# Altium footprint library libreriaPcb.PcbLib: 683 footprints (part 12 of 44)
Each footprint in its own frame and in the unit in brackets; x right, y up, seen from the top. Pads: shape width x height; smd on the part's side, far side on the other; paste and mask are expansions set on the pad; w line width, h text height; cw(c..) or ccw(c..) is an arc to the next point about the centre after c.
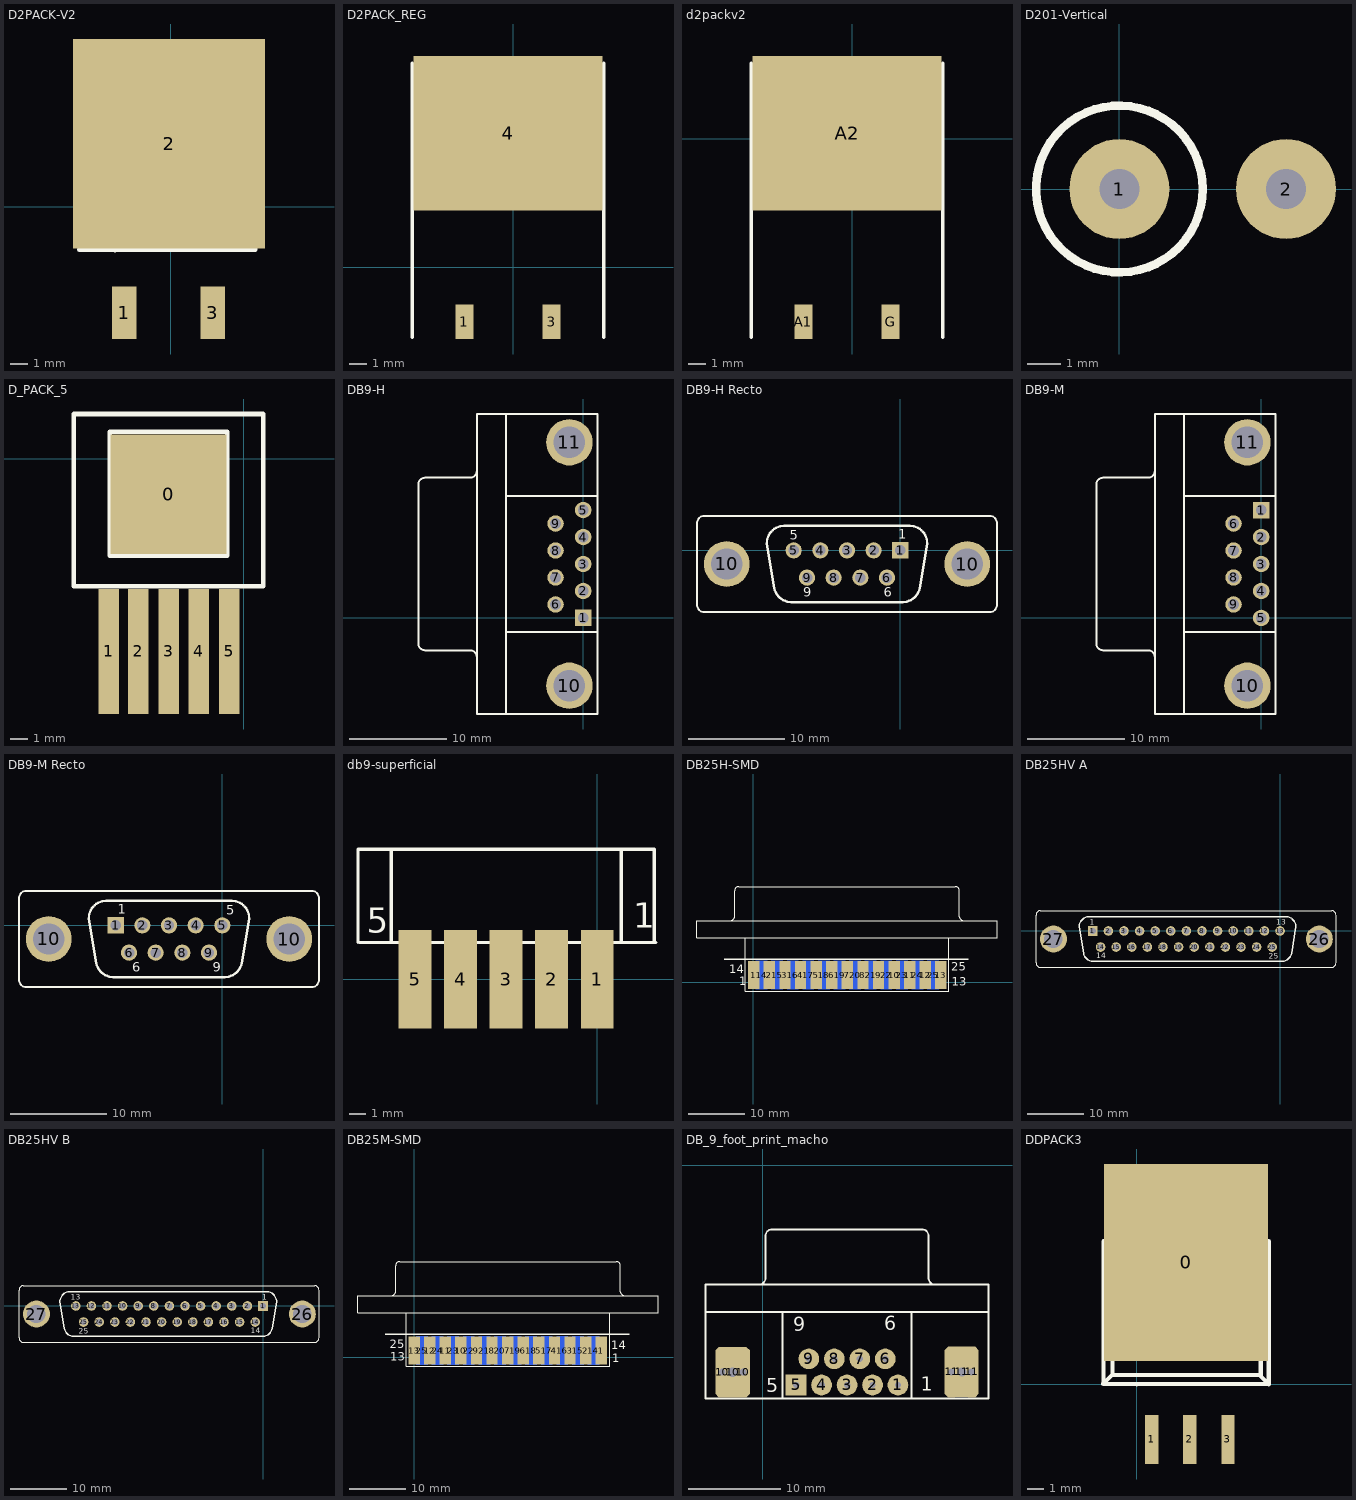
[diagram p11: the footprints below, top view; thin cyan lines are the x and y axes]

## D2PACK-V2 [mm]
pads (3):
  rect 1.4x3 smd: 1(-2.65,-6.075) 3(2.4,-6.075)
  rect 11x12 smd: 2(-0.1,3.6)
Top Overlay:
  lines w0.254: -5.23,-2.435 -5.23,-2.465 -0.21,-2.465 ; -5.21,-2.445 -5.21,6.245 4.85,6.245 4.85,-2.475 4.85,-2.465 ; -5.19,-2.395 -4.74,-1.945 ; -5.11,6.145 -4.68,5.715 ; -3.19,-2.485 -3.19,-2.465 3.35,-2.465 ; -3.19,6.255 3.36,6.255 3.36,6.215 3.35,6.215 ; 1.38,-2.465 4.85,-2.465 ; 4.37,-1.915 -4.68,-1.915 -4.68,5.715 ; 4.37,-1.795 4.37,5.665 ; 4.39,-2.005 4.85,-2.465 ; 4.82,6.165 4.39,5.735 4.39,5.715 -4.68,5.715
3D body: height 1, standoff 0, extent -3.457,-2.465 3.47,6.285

## D2PACK_REG [mm]
pads (3):
  rect 1.05x2 smd: 1(-2.837,-3.184) 3(2.243,-3.184)
  rect 11x9 smd: 4(-0.297,7.816)
Top Overlay:
  lines w0.2: -5.872,-4.084 -5.872,11.916 ; 5.278,-4.084 5.278,11.916
3D body: height 4, standoff 0, extent -5.899,3.196 5.304,12.418
3D body: height 1, standoff 0, extent -5.919,4.485 5.285,12.907
3D body: height 3, standoff 2.5, extent -3.217,-2.004 -2.417,3.196
3D body: height 3, standoff 2.5, extent 1.883,-2.004 2.683,3.196
3D body: height 0.5, standoff 0, extent 1.883,-4.204 2.683,-1.504
3D body: height 0.5, standoff 0, extent -3.217,-4.204 -2.417,-1.504
3D body: height 3, standoff 0, extent -3.217,-2.004 -2.417,-1.504
3D body: height 3, standoff 0, extent 1.883,-2.054 2.683,-1.504

## d2packv2 [mm]
pads (3):
  rect 1.05x2 smd: A1(-2.837,-10.684) G(2.243,-10.684)
  rect 11x9 smd: A2(-0.297,0.316)
Top Overlay:
  lines w0.2: -5.872,-11.584 -5.872,4.416 ; 5.278,-11.584 5.278,4.416
3D body: height 3, standoff 0, extent 1.883,-9.554 2.683,-9.004
3D body: height 3, standoff 0, extent -3.217,-9.504 -2.417,-9.004
3D body: height 0.5, standoff 0, extent -3.217,-11.704 -2.417,-9.004
3D body: height 0.5, standoff 0, extent 1.883,-11.704 2.683,-9.004
3D body: height 3, standoff 2.5, extent 1.883,-9.504 2.683,-4.304
3D body: height 3, standoff 2.5, extent -3.217,-9.504 -2.417,-4.304
3D body: height 1, standoff 0, extent -5.919,-3.015 5.285,5.407
3D body: height 4, standoff 0, extent -5.899,-4.304 5.304,4.918

## D201-Vertical [mm]
pads (2):
  round 3 hole 1.2: 1(0,0) 2(5,0)
Top Overlay:
  circle w0.254: c0,0 r2.5
3D body: height 9, standoff 0, extent -2.48,-2.495 2.5,2.495
3D body: height 8.5, standoff 8, extent -2.6,-2.59 2.579,2.6
3D body: height 14, standoff 0, extent 4.504,-0.499 5.5,0.499
3D body: height 14.5, standoff 13.5, extent -0.1,-0.499 4.9,0.499
3D body: height 14, standoff 0, extent -0.496,-0.499 0.5,0.499

## D_PACK_5 [mm]
pads (6):
  rect 6.5x6.7 smd: 0(-4.2,-2)
  rect 1.15x7 smd: 1(-7.55,-10.8) 2(-5.9,-10.8) 3(-4.2,-10.8) 4(-2.5,-10.8) 5(-0.8,-10.8)
Top Overlay:
  lines w0.254: -9.5,-7.15 1.1,-7.15 1.1,2.5 -9.5,2.5 -9.5,0 -9.5,-7.15 ; -7.5,-5.45 -0.9,-5.45 -0.9,1.5 -7.5,1.5 -7.5,-5.45
3D body: height 3, standoff 0, extent -9.499,-7.149 1.099,2.499

## DB9-H [mm]
pads (11):
  rect 1.69x1.69 hole 1.09: 1(0,0)
  round 1.69 hole 1.09: 2(0,2.77) 3(0,5.54) 4(0,8.31) 5(0,11.08) 6(-2.84,1.385) 7(-2.84,4.155) 8(-2.84,6.925) 9(-2.84,9.695)
  round 4.76 hole 3.26: 10(-1.42,-6.955) 11(-1.42,18.035)
Top Overlay:
  lines w0.2: -16.225,-3.32 cw(c-16.225,-2.625) -16.92,-2.625 -16.92,13.705 cw(c-16.225,13.705) -16.225,14.4 ; -16.22,-3.325 -11.62,-3.325 cw(c-11.62,-4.02) -10.925,-4.02 ; -16.22,14.405 -11.62,14.405 ccw(c-11.62,15.1) -10.925,15.1 ; -7.92,-9.86 -7.92,20.94 ; -7.92,-1.46 1.48,-1.46 ; -7.92,12.54 1.48,12.54 ; -10.92,-9.86 1.48,-9.86 1.48,20.94 -10.92,20.94 -10.92,-9.86

## DB9-H Recto [mm]
pads (11):
  rect 1.69x1.69 hole 1.09: 1(0,0)
  round 1.69 hole 1.09: 2(-2.77,0) 3(-5.54,0) 4(-8.31,0) 5(-11.08,0) 6(-1.385,-2.84) 7(-4.155,-2.84) 8(-6.925,-2.84) 9(-9.695,-2.84)
  round 4.76 hole 3.26: 10(-18.035,-1.42) 10(6.955,-1.42)
Top Overlay:
  lines w0.2: -21.123,-5.658 ccw(c-20.361,-5.658) -20.361,-6.42 9.281,-6.42 ccw(c9.281,-5.658) 10.043,-5.658 10.043,-1.42 10.043,2.818 ccw(c9.281,2.818) 9.281,3.58 -20.361,3.58 ccw(c-20.361,2.818) -21.123,2.818 -21.123,-1.42 -21.123,-5.658
  lines w0.254: -13.862,0.739 cw(c-12.058,0.739) -12.058,2.543 0.978,2.543 cw(c0.978,0.739) 2.782,0.739 ; -13.858,0.739 -13.086,-3.958 ccw(c-11.322,-3.579) -11.322,-5.383 0.242,-5.383 ccw(c0.242,-3.579) 2.006,-3.958 2.778,0.739
  text "6" at -1.7,-4.8 h1
  text "1" at -0.2,1.2 h1
  text "5" at -11.5,1.1 h1
  text "9" at -10.1,-4.8 h1

## DB9-M [mm]
pads (11):
  rect 1.69x1.69 hole 1.09: 1(0,11.08)
  round 1.69 hole 1.09: 2(0,8.31) 3(0,5.54) 4(0,2.77) 5(0,0) 6(-2.84,9.695) 7(-2.84,6.925) 8(-2.84,4.155) 9(-2.84,1.385)
  round 4.76 hole 3.26: 10(-1.42,-6.955) 11(-1.42,18.035)
Top Overlay:
  lines w0.2: -16.225,-3.32 cw(c-16.225,-2.625) -16.92,-2.625 -16.92,13.705 cw(c-16.225,13.705) -16.225,14.4 ; -16.22,-3.325 -11.62,-3.325 cw(c-11.62,-4.02) -10.925,-4.02 ; -16.22,14.405 -11.62,14.405 ccw(c-11.62,15.1) -10.925,15.1 ; -7.92,-9.86 -7.92,20.94 ; -7.92,-1.46 1.48,-1.46 ; -7.92,12.54 1.48,12.54 ; -10.92,-9.86 -10.92,20.94 1.48,20.94 1.48,-9.86 -10.92,-9.86

## DB9-M Recto [mm]
pads (11):
  rect 1.69x1.69 hole 1.09: 1(-11.08,0)
  round 1.69 hole 1.09: 2(-8.31,0) 3(-5.54,0) 4(-2.77,0) 5(0,0) 6(-9.695,-2.84) 7(-6.925,-2.84) 8(-4.155,-2.84) 9(-1.385,-2.84)
  round 4.76 hole 3.26: 10(-18.035,-1.42) 10(6.955,-1.42)
Top Overlay:
  lines w0.2: -21.123,-5.658 ccw(c-20.361,-5.658) -20.361,-6.42 9.281,-6.42 ccw(c9.281,-5.658) 10.043,-5.658 10.043,-1.42 10.043,2.818 ccw(c9.281,2.818) 9.281,3.58 -20.361,3.58 ccw(c-20.361,2.818) -21.123,2.818 -21.123,-1.42 -21.123,-5.658
  lines w0.254: -13.862,0.739 cw(c-12.058,0.739) -12.058,2.543 0.978,2.543 cw(c0.978,0.739) 2.782,0.739 ; -13.858,0.739 -13.086,-3.958 ccw(c-11.322,-3.579) -11.322,-5.383 0.242,-5.383 ccw(c0.242,-3.579) 2.006,-3.958 2.778,0.739
  text "9" at -0.98,-4.8 h1
  text "5" at 0.42,1.1 h1
  text "1" at -10.88,1.2 h1
  text "6" at -9.38,-4.8 h1

## db9-superficial [mm]
pads (5):
  rect 2x6 smd: 1(0,0) 2(-2.77,0) 3(-5.54,0) 4(-8.31,0) 5(-11.08,0)
Top Overlay:
  lines w0.2: -14.555,2.25 -14.555,7.92 3.475,7.92 ; -14.455,2.25 3.575,2.25 ; -12.54,2.25 -12.54,7.92 ; 1.46,2.25 1.46,7.92 ; 3.475,2.25 3.475,7.849
  text "1" at 2.2,3.15 h1.5
  text "5" at -14.025,2.85 h1.5

## DB25H-SMD [mm]
pads (25):
  rect 2x5 smd: 1(0.108,1.285) 2(2.869,1.285) 3(5.63,1.285) 4(8.391,1.285) 5(11.152,1.285) 6(13.913,1.285) 7(16.674,1.285) 8(19.435,1.285) 9(22.196,1.285) 10(24.957,1.285) 11(27.718,1.285) 12(30.479,1.285) 13(33.24,1.285)
  rect 2x5 smd far side: 14(1.488,1.285) 15(4.249,1.285) 16(7.01,1.285) 17(9.771,1.285) 18(12.532,1.285) 19(15.293,1.285) 20(18.054,1.285) 21(20.794,1.285) 22(23.576,1.285) 23(26.337,1.285) 24(29.098,1.285) 25(31.859,1.285)
Top Overlay:
  lines w0.2: -3.975,10.925 ccw(c-3.975,11.62) -3.28,11.62 -3.28,16.22 ; -3.275,16.225 cw(c-2.58,16.225) -2.58,16.92 35.82,16.92 cw(c35.82,16.225) 36.515,16.225 ; 36.52,16.22 36.52,11.62 ccw(c37.215,11.62) 37.215,10.925 ; -9.93,7.92 -9.93,10.92 43.17,10.92 43.17,7.92 -9.93,7.92 ; -1.38,-1.58 34.62,-1.58 34.62,7.92 -1.38,7.92 -1.38,-1.58
  lines w0.254: -5.063,4.064 38.117,4.064
  text "1" at -2.413,-0.508 h1.5
  text "14" at -4.191,1.651 h1.5
  text "13" at 35.179,-0.635 h1.5
  text "25" at 35.052,2.032 h1.5

## DB25HV A [mm] "DB25HVERTICAL"
pads (27):
  rect 1.69x1.69 hole 1.09: 1(-33.132,0)
  round 1.69 hole 1.09: 2(-30.371,0) 3(-27.61,0) 4(-24.849,0) 5(-22.088,0) 6(-19.327,0) 7(-16.566,0) 8(-13.805,0) 9(-11.044,0) 10(-8.283,0) 11(-5.522,0) 12(-2.761,0) 13(0,0) 14(-31.751,-2.84) 15(-28.99,-2.84) 16(-26.229,-2.84) 17(-23.468,-2.84) 18(-20.707,-2.84) 19(-17.946,-2.84) 20(-15.185,-2.84) 21(-12.424,-2.84) 22(-9.663,-2.84) 23(-6.902,-2.84) 24(-4.141,-2.84) 25(-1.38,-2.84)
  round 4.76 hole 3.26: 26(6.96,-1.42) 27(-40.092,-1.42)
Top Overlay:
  lines w0.2: -43.18,-5.658 ccw(c-42.418,-5.658) -42.418,-6.42 9.144,-6.42 ccw(c9.144,-5.658) 9.906,-5.658 9.906,-1.42 9.906,2.818 ccw(c9.144,2.818) 9.144,3.58 -42.418,3.58 ccw(c-42.418,2.818) -43.18,2.818 -43.18,-1.42 -43.18,-5.658
  lines w0.254: -35.545,0.739 cw(c-33.741,0.739) -33.741,2.543 1.009,2.543 cw(c1.009,0.739) 2.813,0.739 ; -35.541,0.739 -34.769,-3.958 ccw(c-33.005,-3.579) -33.005,-5.383 0.273,-5.383 ccw(c0.273,-3.579) 2.037,-3.958 2.809,0.739
  text "1" at -33.655,1.143 h1
  text "13" at -0.635,1.143 h1
  text "14" at -32.512,-4.826 h1
  text "25" at -2.032,-4.953 h1

## DB25HV B [mm] "DB25HVERTICAL"
pads (27):
  rect 1.69x1.69 hole 1.09: 1(0,0)
  round 1.69 hole 1.09: 2(-2.761,0) 3(-5.522,0) 4(-8.283,0) 5(-11.044,0) 6(-13.805,0) 7(-16.566,0) 8(-19.327,0) 9(-22.088,0) 10(-24.849,0) 11(-27.61,0) 12(-30.371,0) 13(-33.132,0) 14(-1.381,-2.84) 15(-4.142,-2.84) 16(-6.903,-2.84) 17(-9.664,-2.84) 18(-12.424,-2.84) 19(-15.185,-2.84) 20(-17.946,-2.84) 21(-20.707,-2.84) 22(-23.469,-2.84) 23(-26.23,-2.84) 24(-28.991,-2.84) 25(-31.752,-2.84)
  round 4.76 hole 3.26: 26(6.96,-1.42) 27(-40.092,-1.42)
Top Overlay:
  lines w0.2: -43.18,-5.658 ccw(c-42.418,-5.658) -42.418,-6.42 9.144,-6.42 ccw(c9.144,-5.658) 9.906,-5.658 9.906,-1.42 9.906,2.818 ccw(c9.144,2.818) 9.144,3.58 -42.418,3.58 ccw(c-42.418,2.818) -43.18,2.818 -43.18,-1.42 -43.18,-5.658
  lines w0.254: -35.945,0.739 cw(c-34.141,0.739) -34.141,2.543 0.609,2.543 cw(c0.609,0.739) 2.413,0.739 ; -35.941,0.739 -35.169,-3.958 ccw(c-33.405,-3.579) -33.405,-5.383 -0.127,-5.383 ccw(c-0.127,-3.579) 1.637,-3.958 2.409,0.739
  text "25" at -32.639,-4.953 h1
  text "14" at -2.159,-4.826 h1
  text "13" at -34.036,1.143 h1
  text "1" at -0.127,1.143 h1

## DB25M-SMD [mm]
pads (25):
  rect 2x5 smd: 1(33.132,1.199) 2(30.371,1.199) 3(27.61,1.199) 4(24.849,1.199) 5(22.088,1.199) 6(19.327,1.199) 7(16.566,1.199) 8(13.805,1.199) 9(11.044,1.199) 10(8.283,1.199) 11(5.522,1.199) 12(2.761,1.199) 13(0,1.199)
  rect 2x5 smd far side: 14(31.752,1.199) 15(28.991,1.199) 16(26.23,1.199) 17(23.469,1.199) 18(20.707,1.199) 19(17.946,1.199) 20(15.185,1.199) 21(12.446,1.199) 22(9.664,1.199) 23(6.903,1.199) 24(4.142,1.199) 25(1.381,1.199)
Top Overlay:
  lines w0.2: -3.975,10.925 ccw(c-3.975,11.62) -3.28,11.62 -3.28,16.22 ; -3.275,16.225 cw(c-2.58,16.225) -2.58,16.92 35.82,16.92 cw(c35.82,16.225) 36.515,16.225 ; 36.52,16.22 36.52,11.62 ccw(c37.215,11.62) 37.215,10.925 ; -9.93,7.92 43.17,7.92 43.17,10.92 -9.93,10.92 -9.93,7.92 ; -1.38,-1.58 34.62,-1.58 34.62,7.92 -1.38,7.92 -1.38,-1.58
  lines w0.254: -5.063,4.064 38.117,4.064
  text "14" at 34.925,1.453 h1.5
  text "1" at 35.052,-0.833 h1.5
  text "25" at -4.318,1.651 h1.5
  text "13" at -4.191,-0.635 h1.5

## DB_9_foot_print_macho [mm]
pads (15):
  round 2.25 hole 0.7: 1(14.684,-23.874) 2(11.914,-23.874) 3(9.144,-23.874) 4(6.374,-23.874) 6(13.299,-21.034) 7(10.529,-21.034) 8(7.759,-21.034) 9(4.989,-21.034)
  rect 2.25x2.25 hole 0.7: 5(3.604,-23.874)
  oct 1.5x5.5 hole 0.75: 10(-4.42,-22.48) 10(-2.18,-22.48)
  rect 1.5x5.5 hole 1: 10(-3.302,-22.479) 11(21.639,-22.454)
  oct 1.5x5.5 hole 0.762: 11(20.51,-22.46) 11(22.7,-22.46)
Top Overlay:
  lines w0.2: -6.256,-15.954 24.544,-15.954 ; -0.416,-12.949 ccw(c-0.416,-12.254) 0.279,-12.254 0.279,-7.654 ; 0.284,-7.649 cw(c0.979,-7.649) 0.979,-6.954 17.309,-6.954 cw(c17.309,-7.649) 18.004,-7.649 ; 2.144,-25.354 2.144,-15.954 ; 16.144,-25.354 16.144,-15.954 ; 18.009,-7.654 18.009,-12.254 ccw(c18.704,-12.254) 18.704,-12.949 ; -6.256,-25.354 24.544,-25.354 24.544,-12.954 -6.256,-12.954 -6.256,-25.354
  text "6" at 13.208,-17.907 h1.5
  text "9" at 3.302,-18.034 h1.5
  text "5" at 0.381,-24.638 h1.5
  text "1" at 17.145,-24.511 h1.5

## DDPACK3 [mm]
pads (4):
  rect 10x12 smd: 0(3,7.42)
  rect 0.8x3 smd: 1(0.91,-3.37) 2(3.23,-3.37) 3(5.55,-3.37)
Top Overlay:
  lines w0.254: -2.04,0.03 -2.04,0 2.98,0 ; -2.02,0.02 -2.02,8.71 8.04,8.71 8.04,-0.01 8.04,0 ; -2,0.07 -1.55,0.52 ; -1.92,8.61 -1.49,8.18 ; 0,-0.02 0,0 6.54,0 ; 0,8.72 6.55,8.72 6.55,8.68 6.54,8.68 ; 4.57,0 8.04,0 ; 7.56,0.55 -1.49,0.55 -1.49,8.18 ; 7.56,0.67 7.56,8.13 ; 7.58,0.46 8.04,0 ; 8.01,8.63 7.58,8.2 7.58,8.18 -1.49,8.18
3D body: height 1, standoff 0, extent -0.267,0 6.66,8.75